# Altium footprint library SOIC8-ACS712.PcbLib: 1 footprints
Each footprint in its own frame and in the unit in brackets; x right, y up, seen from the top. Pads: shape width x height; smd on the part's side, far side on the other; paste and mask are expansions set on the pad; w line width, h text height; cw(c..) or ccw(c..) is an arc to the next point about the centre after c.
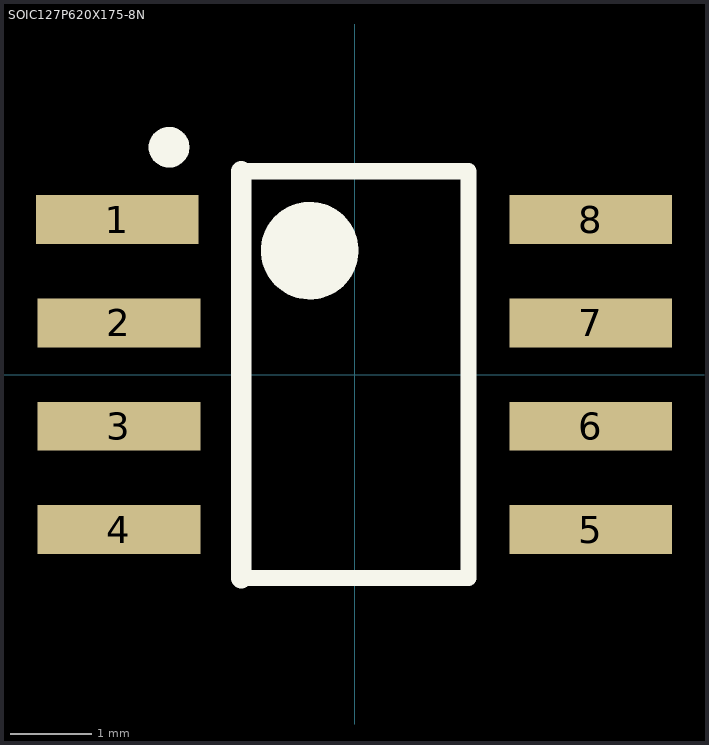
[diagram p0: the footprint, top view; thin cyan lines are the x and y axes]

## SOIC127P620X175-8N [mm] "SOIC, 8-Leads, Body 5.0x4.0mm (max), Pitch 1.27mm, IPC Medium Density"
height 1.75
pads (8):
  rect 2x0.6 smd: 1(-2.921,1.905) 2(-2.9,0.635) 3(-2.9,-0.635) 4(-2.9,-1.905) 5(2.9,-1.905) 6(2.9,-0.635) 7(2.9,0.635) 8(2.9,1.905)
Top Overlay:
  circle w0.6: c-0.554,1.524 r0.3
  circle w0.25: c-2.284,2.794 r0.125
  lines w0.2: -1.397,-2.5 1.397,-2.5 1.397,2.5 -1.397,2.5
  lines w0.254: -1.397,-2.5 -1.397,2.5